# Altium schematic symbol library STM32F103C8T6最小系统.SchLib: 1 symbol
Pins are listed as number, name and electrical type; pins without a type are passive.

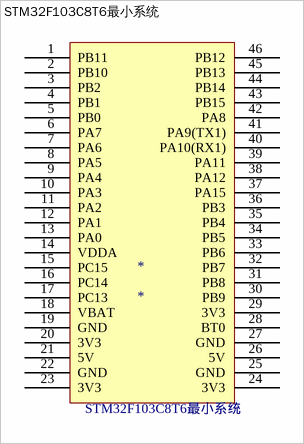
[diagram p0: symbol STM32F103C8T6最小系统]

## STM32F103C8T6最小系统
designator *
pins: 1 PB11, 2 PB10, 3 PB2, 4 PB1, 5 PB0, 6 PA7, 7 PA6, 8 PA5, 9 PA4, 10 PA3, 11 PA2, 12 PA1, 13 PA0, 14 VDDA, 15 PC15, 16 PC14, 17 PC13, 18 VBAT, 19 GND, 20 3V3, 21 5V, 22 GND, 23 3V3, 24 3V3, 25 GND, 26 5V, 27 GND, 28 BT0, 29 3V3, 30 PB9, 31 PB8, 32 PB7, 33 PB6, 34 PB5, 35 PB4, 36 PB3, 37 PA15, 38 PA12, 39 PA11, 40 PA10(RX1), 41 PA9(TX1), 42 PA8, 43 PB15, 44 PB14, 45 PB13, 46 PB12